# EAGLE library part MAX16804ATP+ (library driver)
High-Voltage, 350mA LED Driver with Analog and PWM Dimming Control
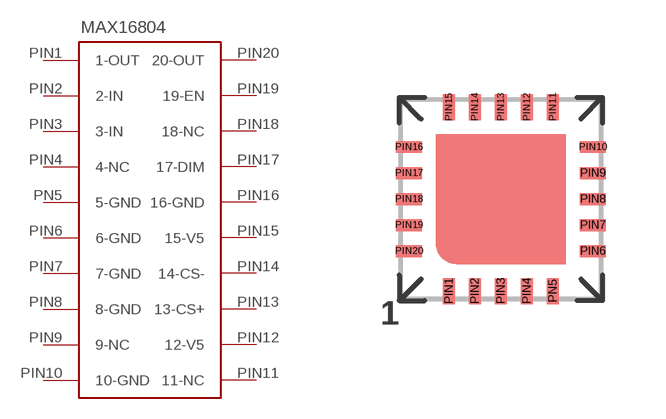
[diagram p0: symbol with the pads of TQFN-20; footprint TQFN-20]

Designator prefix -

## MAX16804ATP+  [TQFN-20]
PIN1  1-OUT
PIN2  2-IN
PIN3  3-IN
PIN4  4-NC
PIN6  6-GND
PIN7  7-GND
PIN8  8-GND
PIN9  9-NC
PIN10  10-GND
PIN11  11-NC
PIN12  12-V5
PIN13  13-CS+
PIN14  14-CS-
PIN15  15-V5
PIN16  16-GND
PIN17  17-DIM
PIN18  18-NC
PIN19  19-EN
PIN20  20-OUT
PN5  5-GND

## Footprint TQFN-20 (pad centres in mm)
smd 0.3 x 0.65: PIN1 -1.3,-2.3; PIN2 -0.65,-2.3; PIN3 0,-2.3; PIN4 0.65,-2.3; PIN11 1.3,2.3; PIN12 0.65,2.3; PIN13 0,2.3; PIN14 -0.65,2.3; PIN15 -1.3,2.3; PN5 1.3,-2.3
smd 0.65 x 0.3: PIN6 2.3,-1.3; PIN7 2.3,-0.65; PIN8 2.3,0; PIN9 2.3,0.65; PIN10 2.3,1.3; PIN16 -2.3,1.3; PIN17 -2.3,0.65; PIN18 -2.3,0; PIN19 -2.3,-0.65; PIN20 -2.3,-1.3